# Altium schematic symbol library ИК сенсоры.SchLib: 11 symbols
Pins are listed as number, name and electrical type; pins without a type are passive.

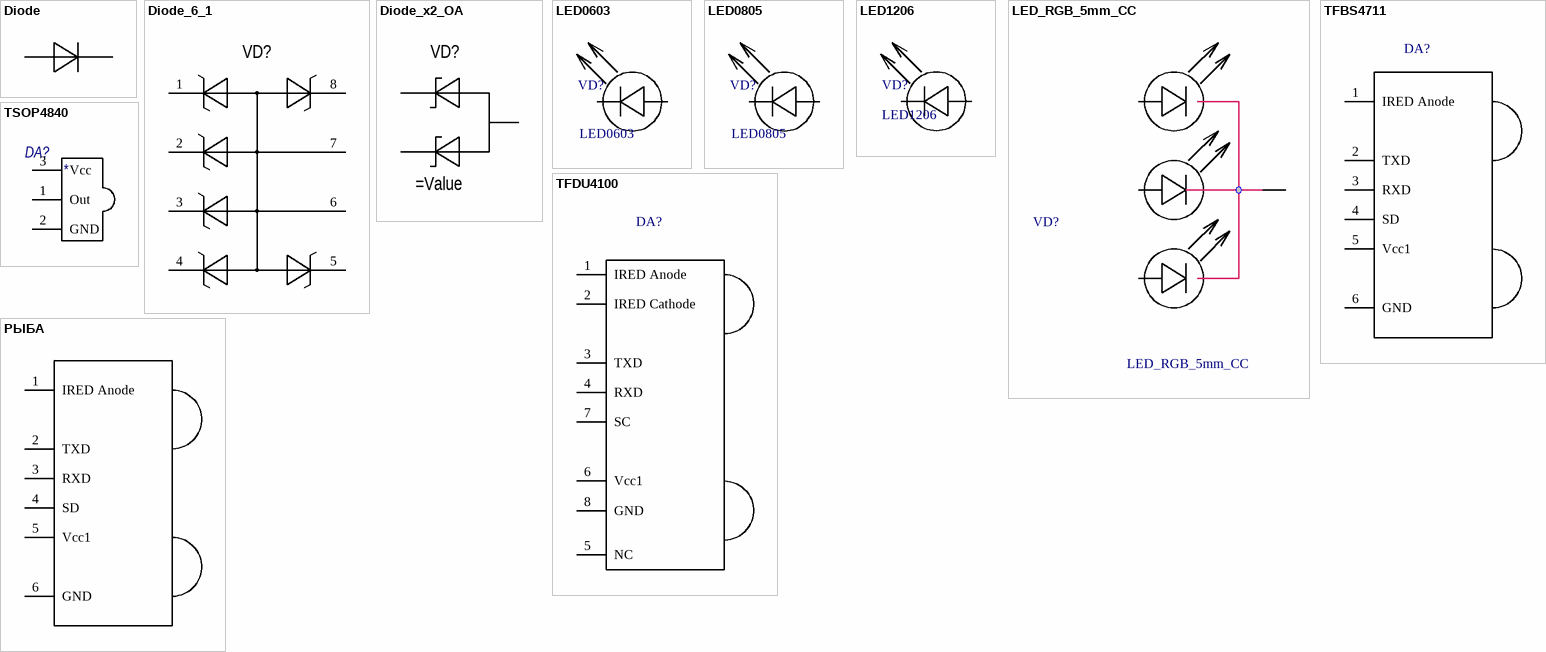
[diagram p0: symbols Diode to РЫБА]

## Diode
designator VD?  (value not drawn)
pins: 1, 2

## Diode_6_1
designator VD?
pins: 1, 2, 3, 4, 5, 6, 7, 8

## Diode_x2_OA
designator VD?
Diode_x2_OA
pins: 1, 2, 3

## LED0603
designator VD?
pins: 1, 2

## LED0805
designator VD?
pins: 1, 2

## LED1206
designator VD?
pins: 1, 2

## LED_RGB_5mm_CC
designator VD?
pins: 1, 2, 3, 4

## TFBS4711
designator DA?  (value not drawn)
Rem: *; Корпус: *; Value: *; Tolerance: *; Power/Voltage: *; TKE: *; ManufacturerPartNumber: *; Manufacturer: *; Quantity: *; Примечание: *
pins: 1 IRED Anode, 2 TXD, 3 RXD, 4 SD, 5 Vcc1, 6 GND

## TFDU4100
designator DA?  (value not drawn)
Rem: *; Корпус: *; Value: *; Tolerance: *; Power/Voltage: *; TKE: *; ManufacturerPartNumber: *; Manufacturer: *; Quantity: *; Примечание: *
pins: 1 IRED Anode, 2 IRED Cathode, 3 TXD, 4 RXD, 5 NC, 6 Vcc1, 7 SC, 8 GND

## TSOP4840
designator DA?
pins: 1 Out, 2 GND, 3 Vcc

## РЫБА
designator R?  (value not drawn)
Rem: *; Корпус: *; Value: *; Tolerance: *; Power/Voltage: *; TKE: *; ManufacturerPartNumber: *; Manufacturer: *; Quantity: *; Примечание: *
pins: 1 IRED Anode, 2 TXD, 3 RXD, 4 SD, 5 Vcc1, 6 GND